# Altium integrated library SMA connector.IntLib: 1 symbol
Pins are listed as number, name and electrical type; pins without a type are passive.

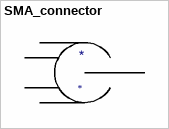
[diagram p0: symbol SMA_connector]

## SMA_connector
designator *
footprint SMA_header
pins: 1 CORE, 2 GND, 3 GND, 4 GND, 5 GND